# EAGLE library part SN74CBTD3384CPWR (library SamacSys_Parts)
10-Bit FET Bus Switches With Level Shifting with -2 V Undershoot Source: Datasheet <http://www.ti.com/lit/gpn/sn74cbtd3384c>
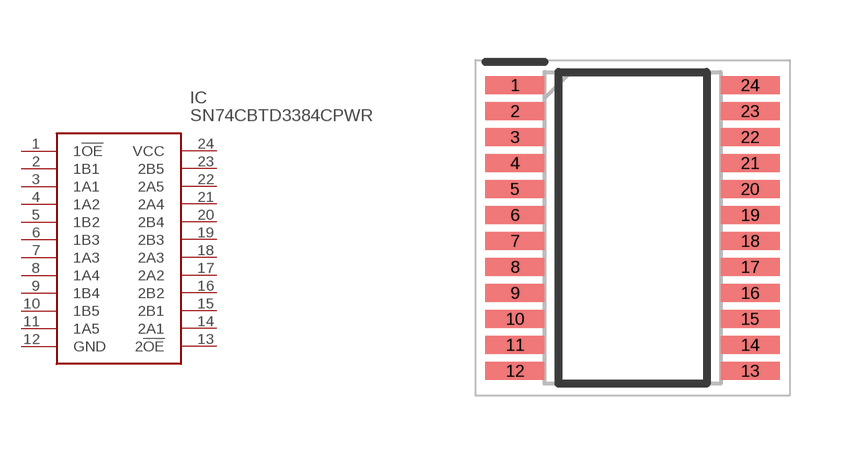
[diagram p55: symbol with the pads of SOP65P640X120-24N; footprint SOP65P640X120-24N]

Designator prefix IC

## SN74CBTD3384CPWR (DESCRIPTION: 10-Bit FET Bus Switches With Level Shifting with -2 V Undershoot; HEIGHT: 1.2mm; MANUFACTURER_NAME: Texas Instruments; MANUFACTURER_PART_NUMBER: SN74CBTD3384CPWR; MOUSER_PART_NUMBER: 595-SN74CBTD3384CPWR; MOUSER_PRICE-STOCK: https://www.mouser.co.uk/ProductDetail/Texas-Instruments/SN74CBTD3384CPWR?qs=mE33ZKBHyE6RicvMJ7Obww%3D%3D)  [SOP65P640X120-24N]
1  1!OE
2  1B1
3  1A1
4  1A2
5  1B2
6  1B3
7  1A3
8  1A4
9  1B4
10  1B5
11  1A5
12  GND
13  2!OE
14  2A1
15  2B1
16  2B2
17  2A2
18  2A3
19  2B3
20  2B4
21  2A4
22  2A5
23  2B5
24  VCC

## Footprint SOP65P640X120-24N (pad centres in mm)
PW (R-PDSO-G24)
smd 1.475 x 0.45: 1 -2.938,3.575; 2 -2.938,2.925; 3 -2.938,2.275; 4 -2.938,1.625; 5 -2.938,0.975; 6 -2.938,0.325; 7 -2.938,-0.325; 8 -2.938,-0.975; 9 -2.938,-1.625; 10 -2.938,-2.275; 11 -2.938,-2.925; 12 -2.938,-3.575; 13 2.938,-3.575; 14 2.938,-2.925; 15 2.938,-2.275; 16 2.938,-1.625; 17 2.938,-0.975; 18 2.938,-0.325; 19 2.938,0.325; 20 2.938,0.975; 21 2.938,1.625; 22 2.938,2.275; 23 2.938,2.925; 24 2.938,3.575